# Altium schematic symbol library Amin-Library.SCHLIB: 505 symbols (part 3 of 4)
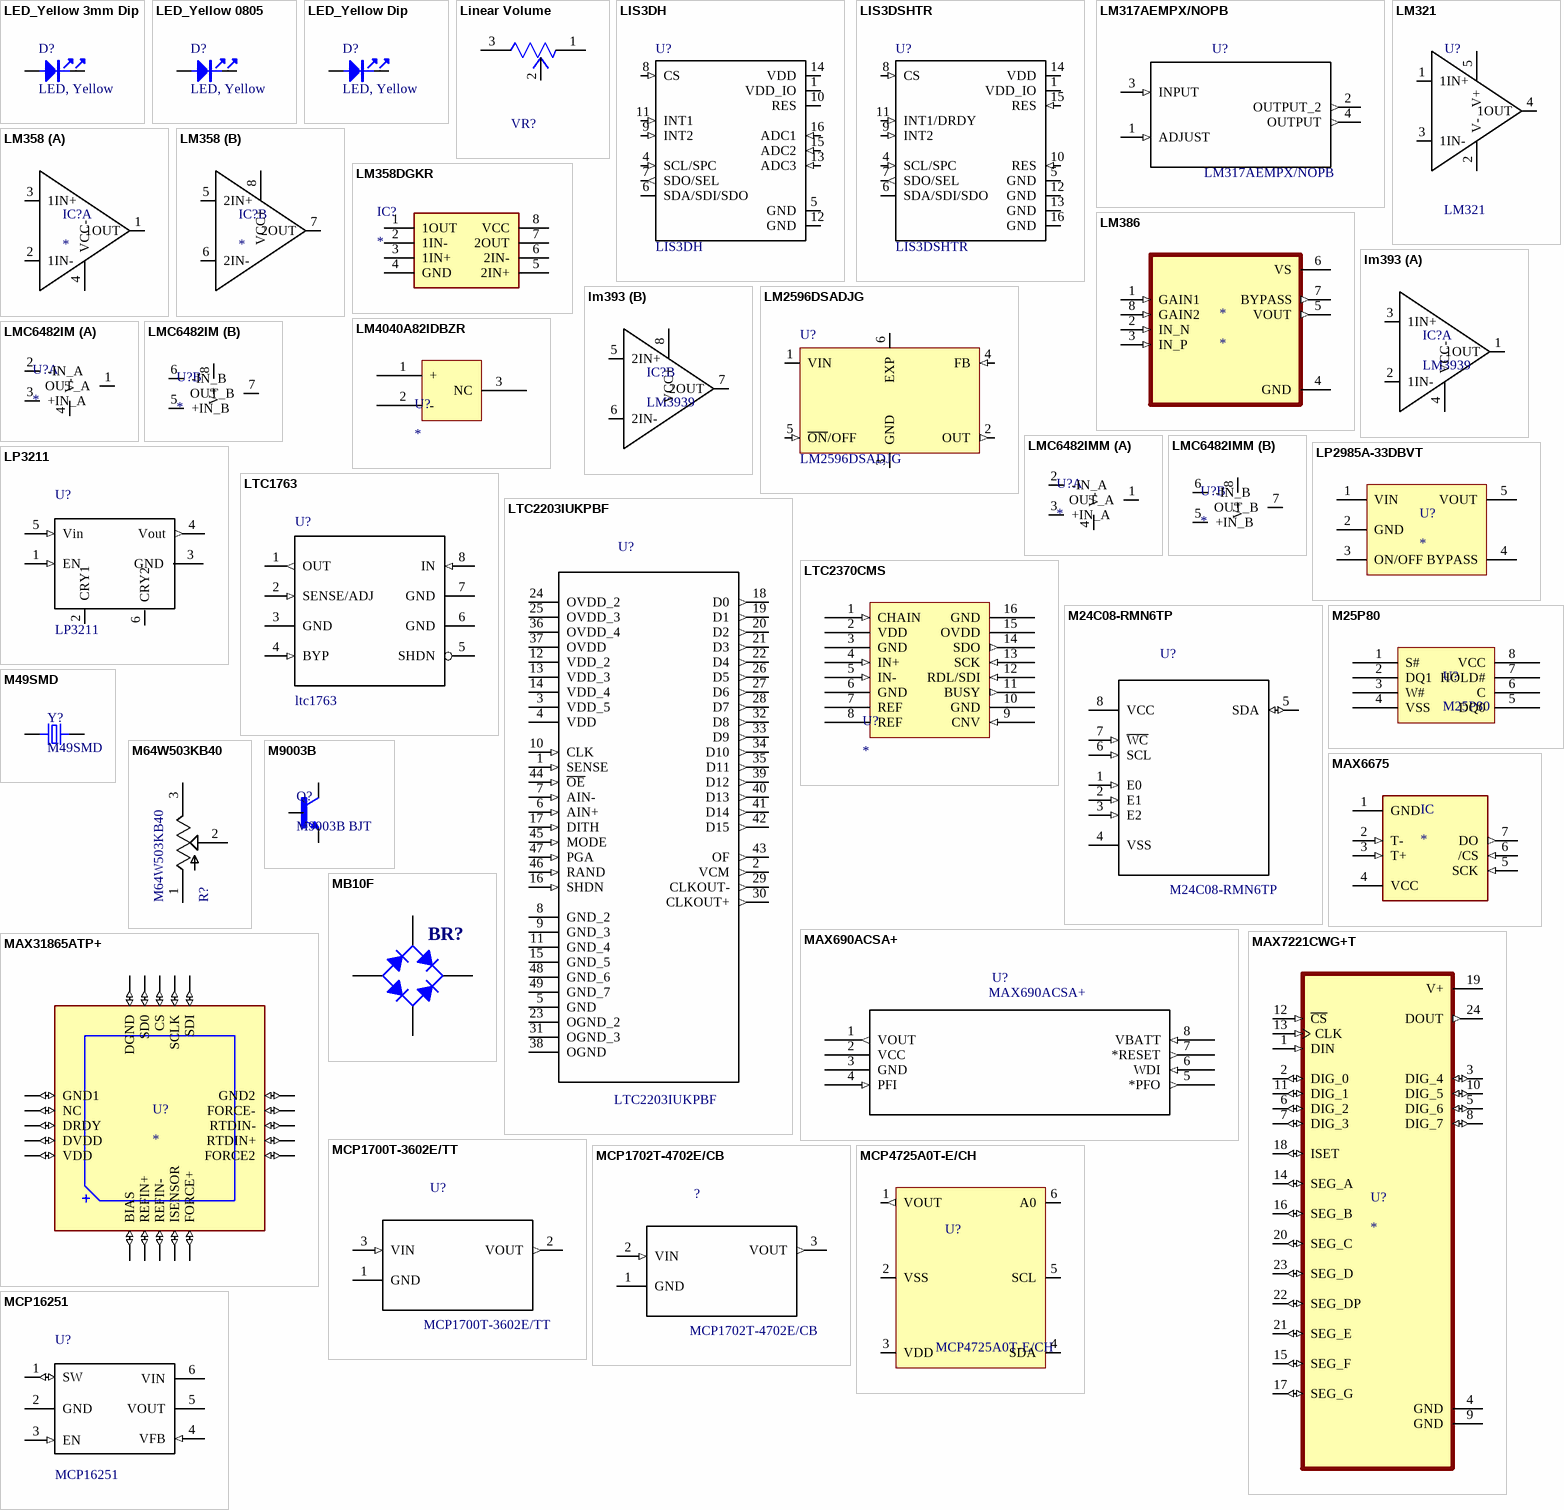
[diagram p20: symbols LED_Yellow 3mm Dip to MCP16251]

## LIS3DSHTR
designator U?
MEMS digital output motion sensor: ultra low-power high performance 3-axes nano accelerometer; MF: STMicroelectronics; SnapEDA_Link: https://www.snapeda.com/parts/LIS3DSHTR/STMicroelectronics/view-part/?ref=snap; Availability: Unavailable; Package: LGA-16 STMicroelectronics; MP: LIS3DSHTR; Price: None; Value: *
footprint *LGA16R50P5X3_300X300X100N
pins: 1 VDD_IO (power), 4 SCL/SPC (in), 5 GND (power), 6 SDA/SDI/SDO (io), 7 SDO/SEL (out), 8 CS (in), 9 INT2 (in), 10 RES (in), 11 INT1/DRDY (in), 12 GND (power), 13 GND (power), 14 VDD (power), 15 RES (in), 16 GND (power)

## LM317AEMPX/NOPB
designator U?
1% Accurate, 1.5A Adjustable Linear Regulator with Short Circuit Protection 4-SOT-223 -40 to 125; MF: Texas Instruments; Package: SOT-223-4 Texas Instruments; Digi-Key_Purchase_URL: https://www.digikey.com/product-detail/en/texas-instruments/LM317AEMPX-NOPB/LM317AEMPX-NOPBCT-ND/1010528?utm_source=snapeda&utm_medium=aggregator&utm_campaign=symbol; MP: LM317AEMPX/NOPB; SnapEDA_Link: https://www.snapeda.com/parts/LM317AEMPX/NOPB/Texas%20Instruments/view-part/?ref=snap; Digi-Key_Part_Number: LM317AEMPX/NOPBCT-ND; Value: *
footprint *SOT230P700X180-4N
pins: 1 ADJUST (in), 2 OUTPUT_2 (out), 3 INPUT (in), 4 OUTPUT (out)

## LM321
designator U?
Operational Amplifier 5-SOT-23; MP: OPA354AIDBVT; MF: Texas Instruments; Package: SOT-23-5 Texas Instruments; Digi-Key_Purchase_URL: https://www.digikey.de/product-detail/en/texas-instruments/OPA354AIDBVT/296-13033-1-ND/480149?utm_source=snapeda&utm_medium=aggregator&utm_campaign=symbol; SnapEDA_Link: https://www.snapeda.com/parts/OPA354AIDBVT/Texas%20Instruments/view-part/?ref=snap; Digi-Key_Part_Number: 296-13033-1-ND; Value: *
footprint LM321
pins: 1 1IN+, 2 V-, 3 1IN-, 4 1OUT, 5 V+

## LM358
designator IC?
op amp 8-Pin SOIC; Manufacturer_Name: Texas Instruments; Manufacturer_Part_Number: RC4558DR; Datasheet Link: http://www.ti.com/lit/gpn/rc4558; Height: 1.75mm; Arrow Part Number: RC4558DR; Arrow Price/Stock: https://www.arrow.com/en/products/rc4558dr/texas-instruments; Mouser Part Number: 595-RC4558DR; Mouser Price/Stock: https://www.mouser.co.uk/ProductDetail/Texas-Instruments/RC4558DR?qs=DXdcjUGny5OhrzskaZRdew%3D%3D
footprint LM358
part A pins: 1 1OUT, 2 1IN-, 3 1IN+, 4 VCC-
part B pins: 5 2IN+, 6 2IN-, 7 2OUT, 8 VCC+

## LM358DGKR
designator IC?
Integrated Circuit; Manufacturer_Name: Texas Instruments; Manufacturer_Part_Number: LM358DGKR; Datasheet Link: http://www.ti.com/lit/gpn/lm358; Height: 1.1mm; Arrow Part Number: LM358DGKR; Arrow Price/Stock: https://www.arrow.com/en/products/lm358dgkr/texas-instruments; Mouser Part Number: 595-LM358DGKR; Mouser Price/Stock: https://www.mouser.co.uk/ProductDetail/Texas-Instruments/LM358DGKR?qs=VBduBm9rCJQpfL21a%2FCtGg%3D%3D
footprint LM358DR
pins: 1 1OUT, 2 1IN-, 3 1IN+, 4 GND, 5 2IN+, 6 2IN-, 7 2OUT, 8 VCC

## LM386
designator *
footprint SOIC-8
pins: 1 GAIN1 (in), 2 IN_N (in), 3 IN_P (in), 4 GND (power), 5 VOUT (out), 6 VS (power), 7 BYPASS (out), 8 GAIN2 (in)

## lm393
designator IC?, comment LM3939
Integrated Circuit; Manufacturer_Name: Texas Instruments; Manufacturer_Part_Number: RC4558DR; Datasheet Link: http://www.ti.com/lit/gpn/rc4558; Height: 1.75mm; Arrow Part Number: RC4558DR; Arrow Price/Stock: https://www.arrow.com/en/products/rc4558dr/texas-instruments; Mouser Part Number: 595-RC4558DR; Mouser Price/Stock: https://www.mouser.co.uk/ProductDetail/Texas-Instruments/RC4558DR?qs=DXdcjUGny5OhrzskaZRdew%3D%3D
footprint lm393
part A pins: 1 1OUT, 2 1IN-, 3 1IN+, 4 VCC-
part B pins: 5 2IN+, 6 2IN-, 7 2OUT, 8 VCC+

## LM2596DSADJG
designator U?
LM2596 Series 3 A 150 kHz 40 V Stepdown Switching Regulator-D2PAK; MF: ON Semiconductor; Digi-Key_Part_Number: LM2596DSADJGOS-ND; Package: D2PAK ON Semiconductor; Digi-Key_Purchase_URL: https://www.digikey.com/product-detail/en/on-semiconductor/LM2596DSADJG/LM2596DSADJGOS-ND/2003290?utm_source=snapeda&utm_medium=aggregator&utm_campaign=symbol; MP: LM2596DSADJG; SnapEDA_Link: https://www.snapeda.com/parts/LM2596DSADJG/ON%20Semiconductor/view-part/215074/?ref=snap; Value: *
footprint LM2596DSADJG
pins: 1 VIN (power), 2 OUT (out), 3 GND (power), 4 FB (in), 5 ~{ON}/OFF (in), 6 EXP (power)

## LM4040A82IDBZR
designator U?
LM4040-N Precision Micropower Shunt Voltage Reference
footprint LM4040A82IDBZR
pins: 1 + (power), 2 - (power), 3 NC

## LMC6482IM
designator U?
Integrated Circuit; Manufacturer_Name: Analog Devices; Manufacturer_Part_Number: ADA4666-2ARMZ; Datasheet Link: https://docs-emea.rs-online.com/webdocs/1284/0900766b81284aba.pdf; Height: 1.1mm; Arrow Part Number: ADA4666-2ARMZ; Arrow Price/Stock: https://www.arrow.com/en/products/ada4666-2armz/analog-devices; Mouser Part Number: 584-ADA4666-2ARMZ; Mouser Price/Stock: https://www.mouser.com/Search/Refine.aspx?Keyword=584-ADA4666-2ARMZ
footprint LMC6482IM
part A pins: 1 OUT_A, 2 -IN_A, 3 +IN_A, 4 V- (power)
part B pins: 5 +IN_B, 6 -IN_B, 7 OUT_B, 8 V+

## LMC6482IMM
designator U?
Integrated Circuit; Manufacturer_Name: Analog Devices; Manufacturer_Part_Number: ADA4666-2ARMZ; Datasheet Link: https://docs-emea.rs-online.com/webdocs/1284/0900766b81284aba.pdf; Height: 1.1mm; Arrow Part Number: ADA4666-2ARMZ; Arrow Price/Stock: https://www.arrow.com/en/products/ada4666-2armz/analog-devices; Mouser Part Number: 584-ADA4666-2ARMZ; Mouser Price/Stock: https://www.mouser.com/Search/Refine.aspx?Keyword=584-ADA4666-2ARMZ
footprint LMC6482IMM
part A pins: 1 OUT_A, 2 -IN_A, 3 +IN_A, 4 V- (power)
part B pins: 5 +IN_B, 6 -IN_B, 7 OUT_B, 8 V+

## LP2985A-33DBVT
designator U?
150-mA 16-V low-dropout (LDO) voltage regulator with high-accuracy
footprint SOT-23-5
pins: 1 VIN, 2 GND, 3 ON/OFF, 4 BYPASS, 5 VOUT

## LP3211
designator U?
High Efficiency Step Up Converter; MP: MT3608; MF: Aerosemi Technology Co., Ltd; SnapEDA_Link: https://www.snapeda.com/parts/MT3608/Aerosemi%20Technology%20Co.%2C%20Ltd/view-part/3218014/?ref=snap; Availability: Unavailable; Price: None; Package: Package Analog Devices; Value: *
footprint LP3211S
pins: 1 EN (in), 2 CRY1, 3 GND (power), 4 Vout (out), 5 Vin (in), 6 CRY2

## LTC1763
designator U?, comment ltc1763
ltc1763 ADJ; MF: Microchip; MP: MIC5209YM; Package: SOIC-8 Microchip; Price: None; Availability: Unavailable; SnapEDA_Link: https://www.snapeda.com/parts/MIC5209YM/Microchip/view-part/?ref=snap; Value: *
footprint LTC1763
pins: 1 OUT (out), 2 SENSE/ADJ (in), 3 GND (power), 4 BYP (in), 5 SHDN (power), 6 GND (power), 7 GND (power), 8 IN (in)

## LTC2203IUKPBF
designator U?
Single Channel Single ADC Pipelined 25Msps 16-bit Parallel 48-Pin QFN EP Tube; MF: Analog Devices; MP: LTC2203IUK#PBF; SnapEDA_Link: https://www.snapeda.com/parts/LTC2203IUK%23PBF/Analog%20Devices/view-part/4349060/?ref=snap; Digi-Key_Purchase_URL: https://www.digikey.com/product-detail/en/linear-technology-analog-devices/LTC2203IUK-PBF/LTC2203IUK-PBF-ND/966479?utm_source=snapeda&utm_medium=aggregator&utm_campaign=symbol; Package: QFN -48 Analog Devices; Digi-Key_Part_Number: LTC2203IUK#PBF-ND; Value: *
footprint Ltc2203
pins: 1 SENSE (in), 2 VCM (out), 3 VDD_5 (power), 4 VDD (power), 5 GND, 6 AIN+ (in), 7 AIN- (in), 8 GND_2, 9 GND_3, 10 CLK (in), 11 GND_4, 12 VDD_2 (power), 13 VDD_3 (power), 14 VDD_4 (power), 15 GND_5, 16 SHDN (in), 17 DITH (in), 18 D0 (out), 19 D1 (out), 20 D2 (out), 21 D3 (out), 22 D4 (out), 23 OGND_2, 24 OVDD_2 (power), 25 OVDD_3 (power), 26 D5 (out), 27 D6 (out), 28 D7 (out), 29 CLKOUT- (out), 30 CLKOUT+ (out), 31 OGND_3, 32 D8 (out), 33 D9 (out), 34 D10 (out), 35 D11 (out), 36 OVDD_4 (power), 37 OVDD (power), 38 OGND, 39 D12 (out), 40 D13 (out), 41 D14 (out), 42 D15 (out), 43 OF (out), 44 ~{OE} (in), 45 MODE (in), 46 RAND (in), 47 PGA (in), 48 GND_6, 49 GND_7

## LTC2370CMS
designator U?
16-Bit, 2Msps, Pseudo-Differential Unipolar SAR ADC with 94dB SNR
footprint LTC2370CMS
pins: 1 CHAIN (in), 2 VDD (power), 3 GND (power), 4 IN+ (in), 5 IN- (in), 6 GND (power), 7 REF (power), 8 REF (power), 9 CNV (in), 10 GND (power), 11 BUSY (out), 12 RDL/SDI (in), 13 SCK (in), 14 SDO (out), 15 OVDD (power), 16 GND (power)

## M24C08-RMN6TP
designator U?
EEPROM Serial-I2C, 8Kb _1K x 8_, I-Temp, 1.8V-5.5V, SO8 _150 mil_; MF: STMicroelectronics; Package: SO-8 STMicroelectronics; Availability: Unavailable; Price: None; SnapEDA_Link: https://www.snapeda.com/parts/M24C08-RMN6TP/STMicroelectronics/view-part/?ref=snap; MP: M24C08-RMN6TP; Value: *
footprint *SOIC127P600X175-8N
pins: 1 E0 (in), 2 E1 (in), 3 E2 (in), 4 VSS, 5 SDA (io), 6 SCL (in), 7 ~{WC} (in), 8 VCC (power)

## M25P80
designator U?
8MB Flash memory; Company: Micron
footprint NSO8_N (8-Pin Small Outline Integrated Circuit 1.27 mm Pitch, IPC Medium Density)
pins: 1 S#, 2 DQ1, 3 W#, 4 VSS, 5 DQ0, 6 C, 7 HOLD#, 8 VCC

## M49SMD
designator Y?
M49SMD-24MHz-12pf-10ppm; MP: ECS-130-20-3X-TR; MF: ECS Inc.; Value: *; SnapEDA_Link: https://www.snapeda.com/parts/ECS-130-20-3X-TR/ECS%20Inc./view-part/2459108/?ref=snap; Check_prices: https://www.snapeda.com/parts/ECS-130-20-3X-TR/ECS%20Inc./view-part/2459108/?ref=eda; Purchase-URL: https://pricing.snapeda.com/search/part/ECS-130-20-3X-TR/?ref=eda; Availability: Warning; Price: None; Package: HC49/US ECS International
footprint M49SMD (M49SMD-24MHz-12pf-10ppm 4*7mm)
pins: 1, 2

## M64W503KB40
designator R?
Res Cermet Trimmer 50K Ohm 10% 1/2W 21_Elec_/23_Mech_Turn 2.2mm _9.7 X 5 X 11.1mm_ Pin Thru-Hole Bulk; MF: Vishay; Price: None; Package: TSOP-34836 Vishay; Availability: Unavailable; SnapEDA_Link: https://www.snapeda.com/parts/M64W503KB40/Vishay%20Spectrol/view-part/?ref=snap; MP: M64W503KB40; Value: *
footprint *SIP460W50P254L970H980Q3P
pins: 1 A, 2 B, 3 C

## M9003B
designator Q?, comment M9003B BJT
Bipolar (BJT) Transistor NPN TO-252, (D-Pak); MF: Diodes Inc.; MP: 2DB1184Q-13; SnapEDA_Link: https://www.snapeda.com/parts/2DB1184Q-13/Diodes+Inc./view-part/?ref=snap; Package: TO-252-3 Diodes Inc.; Value: *; Check_prices: https://www.snapeda.com/parts/2DB1184Q-13/Diodes+Inc./view-part/?ref=eda
footprint M9003 BJT (TO255-DPACK)
pins: 1 B, 2 C, 3 E

## MAX690ACSA+
designator U?
Supervisor Integrated Circuit; active-low; 4, 65 V; 1Ã·5.5VDC; SO8; MF: Maxim Integrated; Price: None; Package: SOIC-8 Maxim Integrated; Availability: Unavailable; SnapEDA_Link: https://www.snapeda.com/parts/MAX690ACSA%2B/Maxim%20Integrated/view-part/?ref=snap; MP: MAX690ACSA+; Value: *
footprint *21-0041B_8
pins: 1 VOUT (out), 2 VCC (power), 3 GND (power), 4 PFI (in), 5 *PFO (out), 6 WDI (in), 7 *RESET (out), 8 VBATT (in)

## MAX6675
designator IC
IC THERMOCOUP TO DGTL 8-SOIC; MP: MAX6675; MF: Maxim Integrated; Package: SOIC-8 Maxim Integrated; Availability: Unavailable; Value: *; SnapEDA_Link: https://www.snapeda.com/parts/MAX6675/Maxim%20Integrated/view-part/558569/?ref=snap; Price: None
footprint Max6675
pins: 1 GND (power), 2 T- (in), 3 T+ (in), 4 VCC (power), 5 SCK (in), 6 /CS (in), 7 DO (out)

## MAX7221CWG+T
designator U?
LED Driver 64 Segment 330000uA Supply Current 24-Pin SOIC W T/R; MP: MAX7221CWG+T; MF: Maxim Integrated Products; Purchase-URL: https://pricing.snapeda.com/search/part/MAX7221CWG+T/?ref=eda; SnapEDA_Link: https://www.snapeda.com/parts/MAX7221CWG+T/Maxim+Integrated/view-part/?ref=snap; Price: None; Package: None; Value: *; Check_prices: https://www.snapeda.com/parts/MAX7221CWG+T/Maxim+Integrated/view-part/?ref=eda; Availability: In Stock
footprint MAX7221CWG (SOIC127P1032X265-24N)
pins: 1 DIN (in), 2 DIG_0 (io), 3 DIG_4 (io), 4 GND (power), 5 DIG_6 (io), 6 DIG_2 (io), 7 DIG_3 (io), 8 DIG_7 (io), 9 GND (power), 10 DIG_5 (io), 11 DIG_1 (io), 12 ~{CS} (in), 13 CLK (in), 14 SEG_A (io), 15 SEG_F (io), 16 SEG_B (io), 17 SEG_G (io), 18 ISET (io), 19 V+ (power), 20 SEG_C (io), 21 SEG_E (io), 22 SEG_DP (io), 23 SEG_D (io), 24 DOUT (out)

## MAX31865ATP+
designator U?
Temp Monitoring System _Sensor_ External Sensor SPI Output 20-TQFN _5x5_; MF: Maxim Integrated; MP: MAX31865ATP+T; Availability: Unavailable; SnapEDA_Link: https://www.snapeda.com/parts/MAX31865ATP%2BT/Maxim%20Integrated/view-part/47355/?ref=snap; Price: None; Package: QFN-20 Maxim; Value: *
footprint MAX31865
pins: 1 BIAS (io), 2 REFIN+ (io), 3 REFIN- (io), 4 ISENSOR (io), 5 FORCE+ (io), 6 FORCE2 (io), 7 RTDIN+ (io), 8 RTDIN- (io), 9 FORCE- (io), 10 GND2 (io), 11 SDI (io), 12 SCLK (io), 13 CS (io), 14 SD0 (io), 15 DGND (io), 16 GND1 (io), 17 NC (io), 18 DRDY (io), 19 DVDD (io), 20 VDD (io)

## MB10F
designator BR?
Full Wave Diode Bridge; Published: 8-Jun-2000; Revision: July-2002: Re-released for DXP Platform.; Publisher: Altium Limited
footprint MB10F (BRIDGE RECTIFIER)
pins: 1 K, 2 C, 3 A, 4 C
2 alternate drawings of the same symbol

## MCP1700T-3602E/TT
designator U?
250mA CMOS LDO, Isupply 1uA and 2% VoutAccuracy; MF: Microchip; Package: SOT-23 Microchip; Digi-Key_Purchase_URL: https://www.digikey.com/product-detail/en/microchip-technology/MCP1700T-3602E-TT/MCP1700T-3602E-TTCT-ND/9450516?utm_source=snapeda&utm_medium=aggregator&utm_campaign=symbol; MP: MCP1700T-3602E/TT; Digi-Key_Part_Number: MCP1700T-3602E/TTCT-ND; SnapEDA_Link: https://www.snapeda.com/parts/MCP1700T-3602E/TT/Microchip/view-part/?ref=snap; Value: *
footprint MCP1700
pins: 1 GND, 2 VOUT (out), 3 VIN (in)

## MCP1702T-4702E/CB
designator ?
LDO Regulator Pos 4.7V 0.25A 3-Pin SOT-23A T/R; MF: Microchip; Package: SOT-23 Microchip; MP: MCP1702T-4702E/CB; SnapEDA_Link: https://www.snapeda.com/parts/MCP1702T-4702E/CB/Microchip/view-part/?ref=snap; Availability: Unavailable; Price: None; Value: *
footprint MCP1700T-3602E/MB
pins: 1 GND, 2 VIN (in), 3 VOUT (out)

## MCP4725A0T-E/CH
designator U?
MCP4725 Series 1 Ch I2C EEPROM Memory 5.5 V 12-Bit D/A Converter SMT - SOT-23-6; MF: Microchip; Price: None; MP: MCP4725A0T-E/CH; SnapEDA_Link: https://www.snapeda.com/parts/MCP4725A0T-E/CH/Microchip/view-part/?ref=snap; Package: SOT-23-6 Microchip; Availability: Unavailable; Value: *
footprint MCP4725
pins: 1 VOUT (out), 2 VSS (power), 3 VDD (power), 4 SDA (power), 5 SCL, 6 A0

## MCP16251
designator U?
High Efficiency 1.2MHz / 2A Step Up Converter; MP: MT3608; MF: Aerosemi Technology Co., Ltd; SnapEDA_Link: https://www.snapeda.com/parts/MT3608/Aerosemi%20Technology%20Co.%2C%20Ltd/view-part/3218014/?ref=snap; Availability: Unavailable; Price: None; Package: Package Analog Devices; Value: *
footprint MCP16251
pins: 1 SW (io), 2 GND (power), 3 EN (in), 4 VFB (in), 5 VOUT (power), 6 VIN (power)

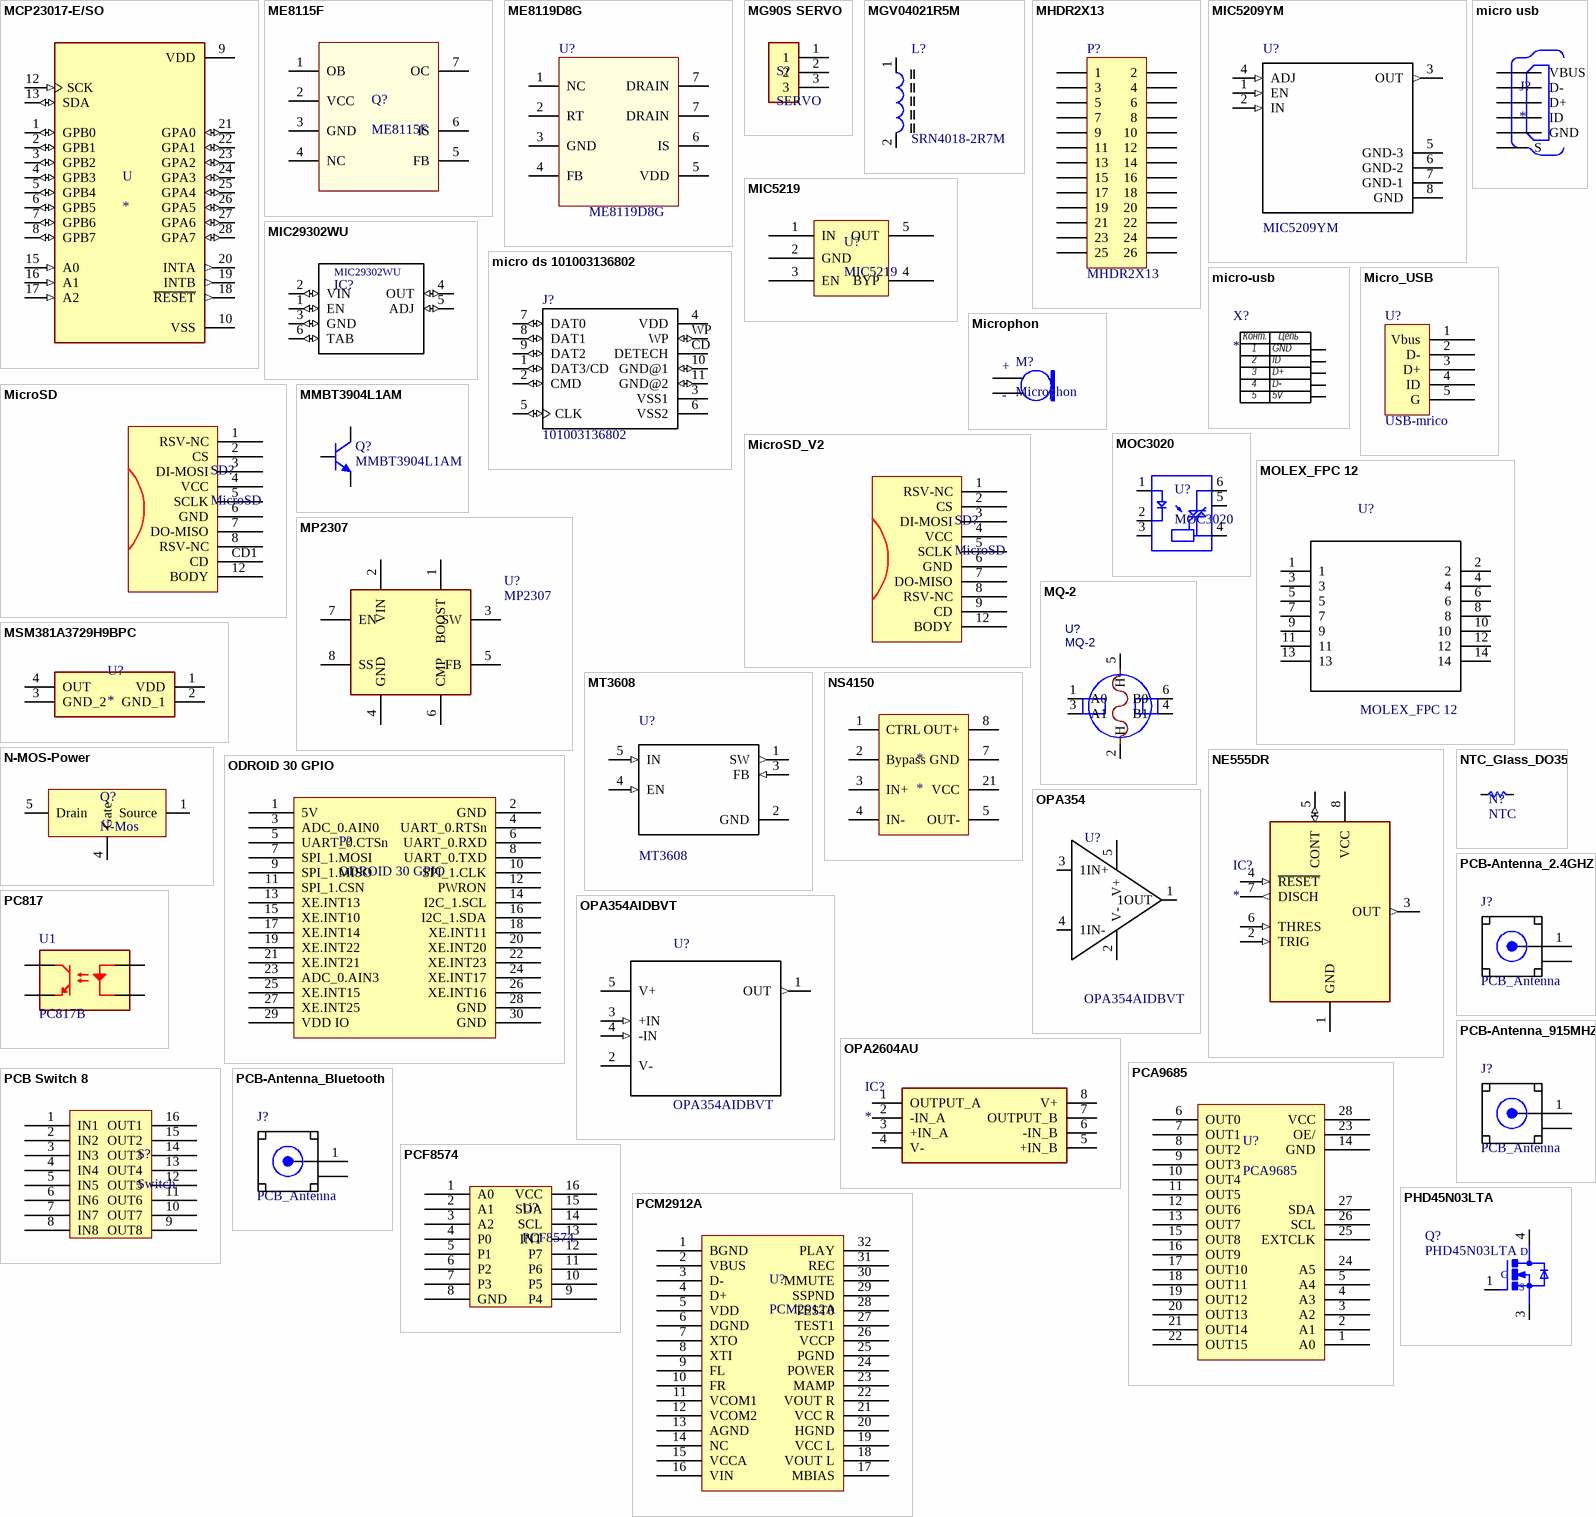
[diagram p12: symbols MCP23017-E/SO to PHD45N03LTA]

## MCP23017-E/SO
designator U
I/O Expander 16 IÂ²C 1.7MHz 28-SOIC; MF: Microchip; MP: MCP23017-E/SO; SnapEDA_Link: https://www.snapeda.com/parts/MCP23017-E/SO/Microchip/view-part/48467/?ref=snap; Price: None; Value: *; Availability: Unavailable; Package: SOIC-28 Microchip
footprint MCP23017
pins: 1 GPB0 (io), 2 GPB1 (io), 3 GPB2 (io), 4 GPB3 (io), 5 GPB4 (io), 6 GPB5 (io), 7 GPB6 (io), 8 GPB7 (io), 9 VDD (power), 10 VSS (power), 12 SCK (in), 13 SDA (io), 15 A0 (in), 16 A1 (in), 17 A2 (in), 18 ~{RESET} (out), 19 INTB (out), 20 INTA (out), 21 GPA0 (io), 22 GPA1 (io), 23 GPA2 (io), 24 GPA3 (io), 25 GPA4 (io), 26 GPA5 (io), 27 GPA6 (io), 28 GPA7 (io)

## ME8115F
designator Q?
PWM Controller of High-performance Current Mode; MF: Toshiba Semiconductor; MP: TPHR8504PL,L1Q; Package: SOP-8 Toshiba; Price: None; Value: *; SnapEDA_Link: https://www.snapeda.com/parts/TPHR8504PL,L1Q/Toshiba%20Semiconductor%20and%20Storage/view-part/604439/?ref=snap; Availability: Unavailable
footprint ME8115F
pins: 1 OB, 2 VCC (power), 3 GND (power), 4 NC, 5 FB, 6 IS, 7 OC

## ME8119D8G
designator U?
PWM Controller of High-performance ME8119D8G DIP8; MF: Toshiba Semiconductor; MP: TPHR8504PL,L1Q; Package: SOP-8 Toshiba; Price: None; Value: *; SnapEDA_Link: https://www.snapeda.com/parts/TPHR8504PL,L1Q/Toshiba%20Semiconductor%20and%20Storage/view-part/604439/?ref=snap; Availability: Unavailable
footprint ME8119D8G (DIP8)
pins: 1 NC, 2 RT (power), 3 GND (power), 4 FB, 5 VDD, 6 IS, 7 DRAIN, 7 DRAIN

## MG90S SERVO
designator S?, comment SERVO
SERVO MOTOR; MP: B4B-XH-A_LF__SN_; MF: JST Sales; Price: None; Package: None; Value: *; Availability: Unavailable; SnapEDA_Link: https://www.snapeda.com/parts/B4B-XH-A%28LF%29%28SN%29/JST%20Sales%20America%20Inc./view-part/447494/?ref=snap
footprint MG90S SERVO MOTOR
pins: 1, 2, 3

## MGV04021R5M
designator L?, comment SRN4018-2R7M
Inductor; Semi-Shielded; Ind 1.5 uH; Tol 20%; Cur-Rtg 4 A; SMT; 1616; MF: Bourns; Availability: Unavailable; Price: None; MP: SRN4018-2R7M; Package: Nonstandard Bourns; SnapEDA_Link: https://www.snapeda.com/parts/SRN4018-2R7M/Bourns/view-part/?ref=snap; Value: *
footprint *INDP4040X180N
pins: 1, 2

## MHDR2X13
designator P?
Header, 13-Pin, Dual row; LatestRevisionDate: 17-Jul-2002; LatestRevisionNote: Re-released for DXP Platform.; Publisher: Altium Limited
footprint HDR2X13 (Connector; Header; 13x2 Position)
signal-integrity model Connector
footprint Model Name (Model Description)
footprint HDR2X13 (Connector; Header; 13x2 Position)
pins: 1, 2, 3, 4, 5, 6, 7, 8, 9, 10, 11, 12, 13, 14, 15, 16, 17, 18, 19, 20, 21, 22, 23, 24, 25, 26

## MIC5209YM
designator U?
MIC5209 Series 500 mA ADJ Output Voltage SMT Low-Noise LDO Regulator - SOIC-8; MF: Microchip; Package: SOIC-8 Microchip; Price: None; Availability: Unavailable; MP: MIC5209YM; SnapEDA_Link: https://www.snapeda.com/parts/MIC5209YM/Microchip/view-part/?ref=snap; Value: *
footprint mic5209
pins: 1 EN (in), 2 IN (in), 3 OUT (out), 4 ADJ (in), 5 GND-3 (power), 6 GND-2 (power), 7 GND-1 (power), 8 GND (power)

## MIC5219
designator U?
500 mA Peak Output LDO Regulator
footprint SOT23_LP5907 (SOT23, 5-Leads, Body 2.88x2.80mm, Pitch 0.95mm, IPC Medium Density)
pins: 1 IN, 2 GND, 3 EN, 4 BYP, 5 OUT

## MIC29302WU
designator IC?  (value not drawn)
Linear Voltage Regulator IC 1 Output 3A TO-263-5; MF: Microchip Technology; MP: MIC29302WU; Price: None; Package: TO-263-6 Microchip Technology; SnapEDA_Link: https://www.snapeda.com/parts/MIC29302WU/Microchip/view-part/4422516/?ref=snap; Availability: Unavailable; Value: *
footprint mic29302
pins: 1 EN (io), 2 VIN (io), 3 GND (io), 4 OUT (io), 5 ADJ (io), 6 TAB (io)

## micro ds 101003136802
designator J?, comment 101003136802
Conn; IC Socket; SD Memory Card; Push/Push; SD Ser.; MF: Amphenol; MP: 101003136802; SnapEDA_Link: https://www.snapeda.com/parts/101003136802/Amphenol/view-part/?ref=snap; Package: None; Price: None; Availability: Unavailable; Value: *
footprint *AMPHENOL_101003136802_101003136802(Primary)
pins: 1 DAT3/CD (io), 2 CMD (io), 3 VSS1 (power), 4 VDD (power), 5 CLK (io), 6 VSS2, 7 DAT0 (io), 8 DAT1 (io), 9 DAT2 (io), 10 GND@1 (io), 11 GND@2 (io), CD DETECH, WP (io)

## micro usb
designator J?
USB - micro AB USB 2.0 Receptacle Connector 5 Position Surface Mount, Right Angle; MF: Amphenol ICC; MP: 10104111-0001LF; Value: *; Price: None; Package: None; SnapEDA_Link: https://www.snapeda.com/parts/10104111-0001LF/Amphenol%20FCI/view-part/2753161/?ref=snap; Availability: Unavailable
footprint micro usb
pins: 1 VBUS (power), 2 D-, 3 D+, 4 ID, 5 GND (power), 6 S (power), 7 S (power), 8 S (power), 9 S (power)

## micro-usb
designator X?
footprint micro-usb
pins: 1, 2, 3, 4, 5
text: Конт.; Цепь; GND; ID; D+; D-; 5V

## Micro_USB
designator U?, comment USB-mrico
footprint micro-usb
pins: 1 Vbus, 2 D-, 3 D+, 4 ID, 5 G

## Microphon
designator M?
MF: CUI Devices; MP: CMEJ-0415-42-P; Digi-Key_Part_Number: 102-6542-ND; Package: CUI Inc.; CUI_purchase_URL: https://www.cuidevices.com/product/audio/microphones/electret-condenser-microphones/cmej-0415-42-p?utm_source=snapeda.com&utm_medium=referral&utm_campaign=snapedaBOM; Digi-Key_Purchase_URL: https://www.digikey.com/product-detail/en/cui-devices/CMEJ-0415-42-P/102-6542-ND/10253451?utm_source=snapeda&utm_medium=aggregator&utm_campaign=symbol; SnapEDA_Link: https://www.snapeda.com/parts/CMEJ-0415-42-P/CUI%20Devices/view-part/3625885/?ref=snap; Value: *
footprint MIC_CMEJ-0415-42-P
pins: N GND, P OUTPUT
text: +; -

## MicroSD
designator SD?
footprint SD_CARD
pins: 1 RSV-NC, 2 CS, 3 DI-MOSI, 4 VCC, 5 SCLK, 6 GND, 7 DO-MISO, 8 RSV-NC, 12 BODY, CD1 CD

## MicroSD_V2
designator SD?, comment MicroSD
footprint SD_CARDSUNTECH_ST-TF-003A_ST-TF-003A
pins: 1 RSV-NC, 2 CS, 3 DI-MOSI, 4 VCC, 5 SCLK, 6 GND, 7 DO-MISO, 8 RSV-NC, 9 CD, 12 BODY

## MMBT3904L1AM
designator Q?
NPN General Purpose Amplifier; Published: 8-Jun-2000; LatestRevisionDate: 15-Jan-2003; LatestRevisionNote: PCB Footprint 'BCY-W3/D4.7' replaced; DatasheetVersion: 1997; PackageVersion: Sep-1998; PackageReference: TO-92A; Publisher: Altium Limited; PackageDescription: TO, Flat Index; 3 In-Line, Axial Leads; Body Dia. 4.5mm; Leads 0.51 x 0.48 mm (max); ComponentLink1Description: Manufacturer Link; ComponentLink1URL: http://www.fairchildsemi.com/; ComponentLink2Description: Datasheet; ComponentLink2URL: http://www.fairchildsemi.com/ds/2N%2F2N3904.pdf
footprint 2N3904 (BJT TRANSISTOR SOT23, 3 pin)
pins: 1 B, 2 E, 3 C

## MOC3020
designator U?
Optoisolator Triac Output 4170Vrms 1 Channel 6-SMD; MP: VOT8026AB-T; Package: None; Price: None; Value: *; Availability: Unavailable
footprint MOC3020
pins: 1 A, 2 C, 3, 4 MT1, 5 NC, 6 MT2

## MOLEX_FPC 12
designator U?
Conn FPC Connector SKT 12 POS 1mm Solder RA SMD Easy-Onâ„¢ Embossed T/R; MF: Molex; MP: 52271-1269; Price: None; Package: None; SnapEDA_Link: https://www.snapeda.com/parts/52271-1269/Molex/view-part/?ref=snap; Availability: Unavailable; Value: *
footprint MOLEX_FPC 12
footprint FPC-12-0.5mm
pins: 1, 2, 3, 4, 5, 6, 7, 8, 9, 10, 11, 12, 13, 14

## MP2307
designator U?
Buck Switching Regulator IC Positive Adjustable 0.925V 1 Output 3A 8-SOIC (0.154, 3.90mm Width) Exposed Pad; MF: Monolithic Power; Price: None; Package: SOIC-8 Monolithic Power; MP: MP2307; Availability: Unavailable; SnapEDA_Link: https://www.snapeda.com/parts/MP2307/Monolithic%20Power%20Systems%20Inc./view-part/2874586/?ref=snap; Value: *
footprint MP2307 (SOIC8)
pins: 1 BOOST, 2 VIN, 3 SW, 4 GND, 5 FB, 6 CMP, 7 EN, 8 SS

## MQ-2
designator U?
Manufacturer: Winsen(炜盛); Supplier: LCSC; Manufacturer Part: MQ-2; Supplier Part: C99296; JLCPCB Part Class: Extended Part; spicePre: U; spiceSymbolName: MQ-2
footprint SENSOR-TH_MQ-2
pins: 1 A0, 2 H, 3 A1, 4 B1, 5 H, 6 B0

## MSM381A3729H9BPC
designator U?
Analog output MEMS microphone
footprint MSM381A3729H9BPC
pins: 1 VDD, 2 GND_1, 3 GND_2, 4 OUT

## MT3608
designator U?
High Efficiency / Step Up Converter; MF: Aerosemi Technology Co., Ltd; SnapEDA_Link: https://www.snapeda.com/parts/MT3608/Aerosemi%20Technology%20Co.%2C%20Ltd/view-part/3218014/?ref=snap; Availability: Unavailable; MP: MT3608; Price: None; Package: Package Analog Devices; Value: *
footprint MT3608
pins: 1 SW (out), 2 GND (power), 3 FB (in), 4 EN (in), 5 IN (in)

## N-MOS-Power
designator Q?, comment N-Mos
footprint DFN5*6
pins: 1 Source, 4 Gate, 5 Drain

## NE555DR
designator IC?
Integrated Circuit; Manufacturer_Name: Texas Instruments; Manufacturer_Part_Number: NE555DR; Datasheet Link: http://www.ti.com/lit/ds/symlink/ne555.pdf; Height: 1.75mm; Mouser Part Number: 595-NE555DR; Mouser Price/Stock: https://www.mouser.com/Search/Refine.aspx?Keyword=595-NE555DR; RS Part Number: 1218414; RS Price/Stock: http://uk.rs-online.com/web/p/products/1218414
footprint NE555DR
pins: 1 GND (power), 2 TRIG (in), 3 OUT (out), 4 ~{RESET} (in), 5 CONT (io), 6 THRES (in), 7 DISCH (out), 8 VCC (power)

## NS4150
designator *
pins: 1 CTRL, 2 Bypass, 3 IN+, 4 IN-, 5 OUT-, 7 GND, 8 OUT+, 21 VCC

## NTC_Glass_DO35
designator N?, comment NTC
NTC_Glass_DO35; Published: 8-Jun-2000; LatestRevisionDate: 29-May-2009; LatestRevisionNote: IPC-7351 Footprint Added.; PackageReference: J1-0603; Publisher: Altium Limited; PackageDescription: Chip Resistor
footprint NTC_Glass_DO35
pins: 1, 2

## ODROID 30 GPIO
designator P?
pins: 1 5V, 2 GND, 3 ADC_0.AIN0, 4 UART_0.RTSn, 5 UART_0.CTSn, 6 UART_0.RXD, 7 SPI_1.MOSI, 8 UART_0.TXD, 9 SPI_1.MISO, 10 SPI_1.CLK, 11 SPI_1.CSN, 12 PWRON, 13 XE.INT13, 14 I2C_1.SCL, 15 XE.INT10, 16 I2C_1.SDA, 17 XE.INT14, 18 XE.INT11, 19 XE.INT22, 20 XE.INT20, 21 XE.INT21, 22 XE.INT23, 23 ADC_0.AIN3, 24 XE.INT17, 25 XE.INT15, 26 XE.INT16, 27 XE.INT25, 28 GND, 29 VDD IO, 30 GND

## OPA354
designator U?, comment OPA354AIDBVT
250MHz, ail-to- ail I/O, CMOS Single Operational Amplifier 5-SOT-23 -40 to 125; MF: Texas Instruments; Package: SOT-23-5 Texas Instruments; Digi-Key_Purchase_URL: https://www.digikey.de/product-detail/en/texas-instruments/OPA354AIDBVT/296-13033-1-ND/480149?utm_source=snapeda&utm_medium=aggregator&utm_campaign=symbol; MP: OPA354AIDBVT; SnapEDA_Link: https://www.snapeda.com/parts/OPA354AIDBVT/Texas%20Instruments/view-part/?ref=snap; Digi-Key_Part_Number: 296-13033-1-ND; Value: *
footprint OPA354
pins: 1 1OUT, 2 V-, 3 1IN+, 4 1IN-, 5 V+

## OPA354AIDBVT
designator U?
250MHz, ail-to- ail I/O, CMOS Single Operational Amplifier 5-SOT-23 -40 to 125; MF: Texas Instruments; Package: SOT-23-5 Texas Instruments; Digi-Key_Purchase_URL: https://www.digikey.de/product-detail/en/texas-instruments/OPA354AIDBVT/296-13033-1-ND/480149?utm_source=snapeda&utm_medium=aggregator&utm_campaign=symbol; MP: OPA354AIDBVT; SnapEDA_Link: https://www.snapeda.com/parts/OPA354AIDBVT/Texas%20Instruments/view-part/?ref=snap; Digi-Key_Part_Number: 296-13033-1-ND; Value: *
footprint OPA354
pins: 1 OUT (out), 2 V- (power), 3 +IN (in), 4 -IN (in), 5 V+ (power)

## OPA2604AU
designator IC?
Integrated Circuit; Manufacturer_Name: Texas Instruments; Manufacturer_Part_Number: OPA2604AU; Datasheet Link: https://media.digikey.com/pdf/Data%20Sheets/Texas%20Instruments%20PDFs/OPA2604.pdf; Height: 1.75mm; Arrow Part Number: OPA2604AU; Arrow Price/Stock: https://www.arrow.com/en/products/opa2604au/texas-instruments; Mouser Part Number: 595-OPA2604AU; Mouser Price/Stock: https://www.mouser.co.uk/ProductDetail/Texas-Instruments/OPA2604AU?qs=7nS3%252BbEUL6uj1K%2FE4kYM7w%3D%3D
footprint OPA2604AU
pins: 1 OUTPUT_A, 2 -IN_A, 3 +IN_A, 4 V-, 5 +IN_B, 6 -IN_B, 7 OUTPUT_B, 8 V+

## PC817
designator U1, comment PC817B
Optocoupler DC-IN 1-CH Transistor DC-OUT 4-Pin PDIP Sleeve; Manufacturer: Sharp; Manufacturer Part Number: PC817X1J000F; Collector Emitter Saturation Voltage: 200mV; Forward Current: 50mA; Max Power Dissipation: 200mW; Number of Channels: 1; Forward Voltage: 1.4V; Reverse Breakdown Voltage: 6V; Rise Time: 18000ns; Collector Emitter Voltage (VCEO): 80V; Isolation Voltage: 5kV; Input Type: DC; Input Current: 20mA; Current Transfer Ratio: 600%; Supplier 1: Farnell; RoHS: Yes; Category: Optocouplers; Pricing 1: 1=0.8, 25=0.43, 100=0.29, 250=0.246, 500=0.205, 1000=0.185, 3000=0.166, 10000=0.149 (GBP); Mount: Through Hole; Case/Package: DIP; Number of Pins: 4; Min Operating Temperature: -30°C; Max Operating Temperature: 100°C; Packaging: Sleeve; Package Quantity: 2000; Max Collector Current: 50mA; Fall Time: 18000ns; Number of Elements: 1; Power Dissipation: 200mW; Max Input Current: 50mA; Output Current per Channel: 50mA; Collector-emitter Voltage-Max: 200mV; Output Voltage: 80V; Collector Emitter Breakdown Voltage: 80V; Radiation Hardening: No; RoHS Compliant: Yes; Reach SVHC Compliant: Unknown; ComponentLink1URL: https://datasheet.ciiva.com/15118/getdatasheetpartid-51013-15118433.pdf?src-supplier=Verical; ComponentLink1Description: https://datasheet.ciiva.com/15118/getdatasheetpartid-51013-15118433.pdf?src-supplier=Verical; ComponentLink2URL: https://datasheet.ciiva.com/8098/pc817x-ej-8098850.pdf?src-supplier=Avnet; ComponentLink2Description: https://datasheet.ciiva.com/8098/pc817x-ej-8098850.pdf?src-supplier=Avnet; ComponentLink3URL: https://datasheet.ciiva.com/6946/73758-6946101.pdf?src-supplier=Newark; ComponentLink3Description: https://datasheet.ciiva.com/6946/73758-6946101.pdf?src-supplier=Newark; ComponentLink4URL: https://datasheet.ciiva.com/8068/1695399-8068005.pdf?src-supplier=Element14; ComponentLink4Description: https://datasheet.ciiva.com/8068/1695399-8068005.pdf?src-supplier=Element14; ComponentLink5URL: https://datasheet.ciiva.com/2092/pc817x-ej-2092617.pdf?src-supplier=Digi-Key; ComponentLink5Description: https://datasheet.ciiva.com/2092/pc817x-ej-2092617.pdf?src-supplier=Digi-Key; Supplier Part Number 1: 9707697
footprint DIP4 7.62MM (Designed by Siavash bolhasani)
pins: 1, 2, 3, 4

## PCA9685
designator U?
16-channel, 12-bit PWM Fm+ I2C-bus LED controller
footprint TSSOP28 (Shrink Small Outline; 28 Leads; Body Width 4.4 mm; Pitch 0.65 mm)
pins: 1 A0, 2 A1, 3 A2, 4 A3, 5 A4, 6 OUT0, 7 OUT1, 8 OUT2, 9 OUT3, 10 OUT4, 11 OUT5, 12 OUT6, 13 OUT7, 14 GND, 15 OUT8, 16 OUT9, 17 OUT10, 18 OUT11, 19 OUT12, 20 OUT13, 21 OUT14, 22 OUT15, 23 OE/, 24 A5, 25 EXTCLK, 26 SCL, 27 SDA, 28 VCC

## PCB Switch 8
designator S?, comment Switch
footprint DIP8_Switch (DIP; 16 Leads; Row Spacing 7.62 mm; Pitch 2.54 mm)
pins: 1 IN1, 2 IN2, 3 IN3, 4 IN4, 5 IN5, 6 IN6, 7 IN7, 8 IN8, 9 OUT8, 10 OUT7, 11 OUT6, 12 OUT5, 13 OUT4, 14 OUT3, 15 OUT2, 16 OUT1

## PCB-Antenna_2.4GHZ
designator J?, comment PCB_Antenna
PCB 2.4GHZ Antenna; MP: SMA-J-P-H-RA-TH1; MF: Samtec; Package: None; Price: None; Availability: Unavailable; SnapEDA_Link: https://www.snapeda.com/parts/SMA-J-P-H-RA-TH1/Samtec%20Inc./view-part/134498/?ref=snap; Value: *
footprint PCB_Antenna - 2.4GHZ
pins: 1 SIGNAL, 2 GND (power), 3 GND (power), 4 GND (power), 5 GND (power)

## PCB-Antenna_915MHZ
designator J?, comment PCB_Antenna
PCB 915MHZ Antenna; MP: SMA-J-P-H-RA-TH1; MF: Samtec; Package: None; Price: None; Availability: Unavailable; SnapEDA_Link: https://www.snapeda.com/parts/SMA-J-P-H-RA-TH1/Samtec%20Inc./view-part/134498/?ref=snap; Value: *
footprint PCB_Antenna
pins: 1 SIGNAL, 2 GND (power), 3 GND (power), 4 GND (power), 5 GND (power)

## PCB-Antenna_Bluetooth
designator J?, comment PCB_Antenna
PCB bluetooth Antenna; MP: SMA-J-P-H-RA-TH1; MF: Samtec; Package: None; Price: None; Availability: Unavailable; SnapEDA_Link: https://www.snapeda.com/parts/SMA-J-P-H-RA-TH1/Samtec%20Inc./view-part/134498/?ref=snap; Value: *
footprint PCB_Antenna - Bluetooth
pins: 1 SIGNAL, 2 GND (power), 3 GND (power), 4 GND (power), 5 GND (power)

## PCF8574
designator U?
Remote 8-Bit I/O Expander for I  2C Bus
footprint WSO16_M (16-Pin Small Outline Integrated Circuit 1.27 mm Pitch, IPC Low Density)
pins: 1 A0, 2 A1, 3 A2, 4 P0, 5 P1, 6 P2, 7 P3, 8 GND, 9 P4, 10 P5, 11 P6, 12 P7, 13 INT, 14 SCL, 15 SDA, 16 VCC

## PCM2912A
designator U?
Audio Codec With USB Interface
footprint 32A_N (32-Pin Thin Quad Flat Pack 0.8 mm Pitch, IPC Medium Density)
pins: 1 BGND, 2 VBUS, 3 D-, 4 D+, 5 VDD, 6 DGND, 7 XTO, 8 XTI, 9 FL, 10 FR, 11 VCOM1, 12 VCOM2, 13 AGND, 14 NC, 15 VCCA, 16 VIN, 17 MBIAS, 18 VOUT L, 19 VCC L, 20 HGND, 21 VCC R, 22 VOUT R, 23 MAMP, 24 POWER, 25 PGND, 26 VCCP, 27 TEST1, 28 TEST0, 29 SSPND, 30 MMUTE, 31 REC, 32 PLAY

## PHD45N03LTA
designator Q?
N-chanel Mosfet Transistors; MF: NXP USA; Package: TO-252-3 NXP USA; Price: None; SnapEDA_Link: https://www.snapeda.com/parts/PHD45N03LTA/NXP%20USA%20Inc./view-part/554376/?ref=snap; Availability: Unavailable; Value: *; MP: PHD45N03LTA
footprint PHD45N03LTA (TO-252-3)
pins: 1 G, 3 S, 4 D

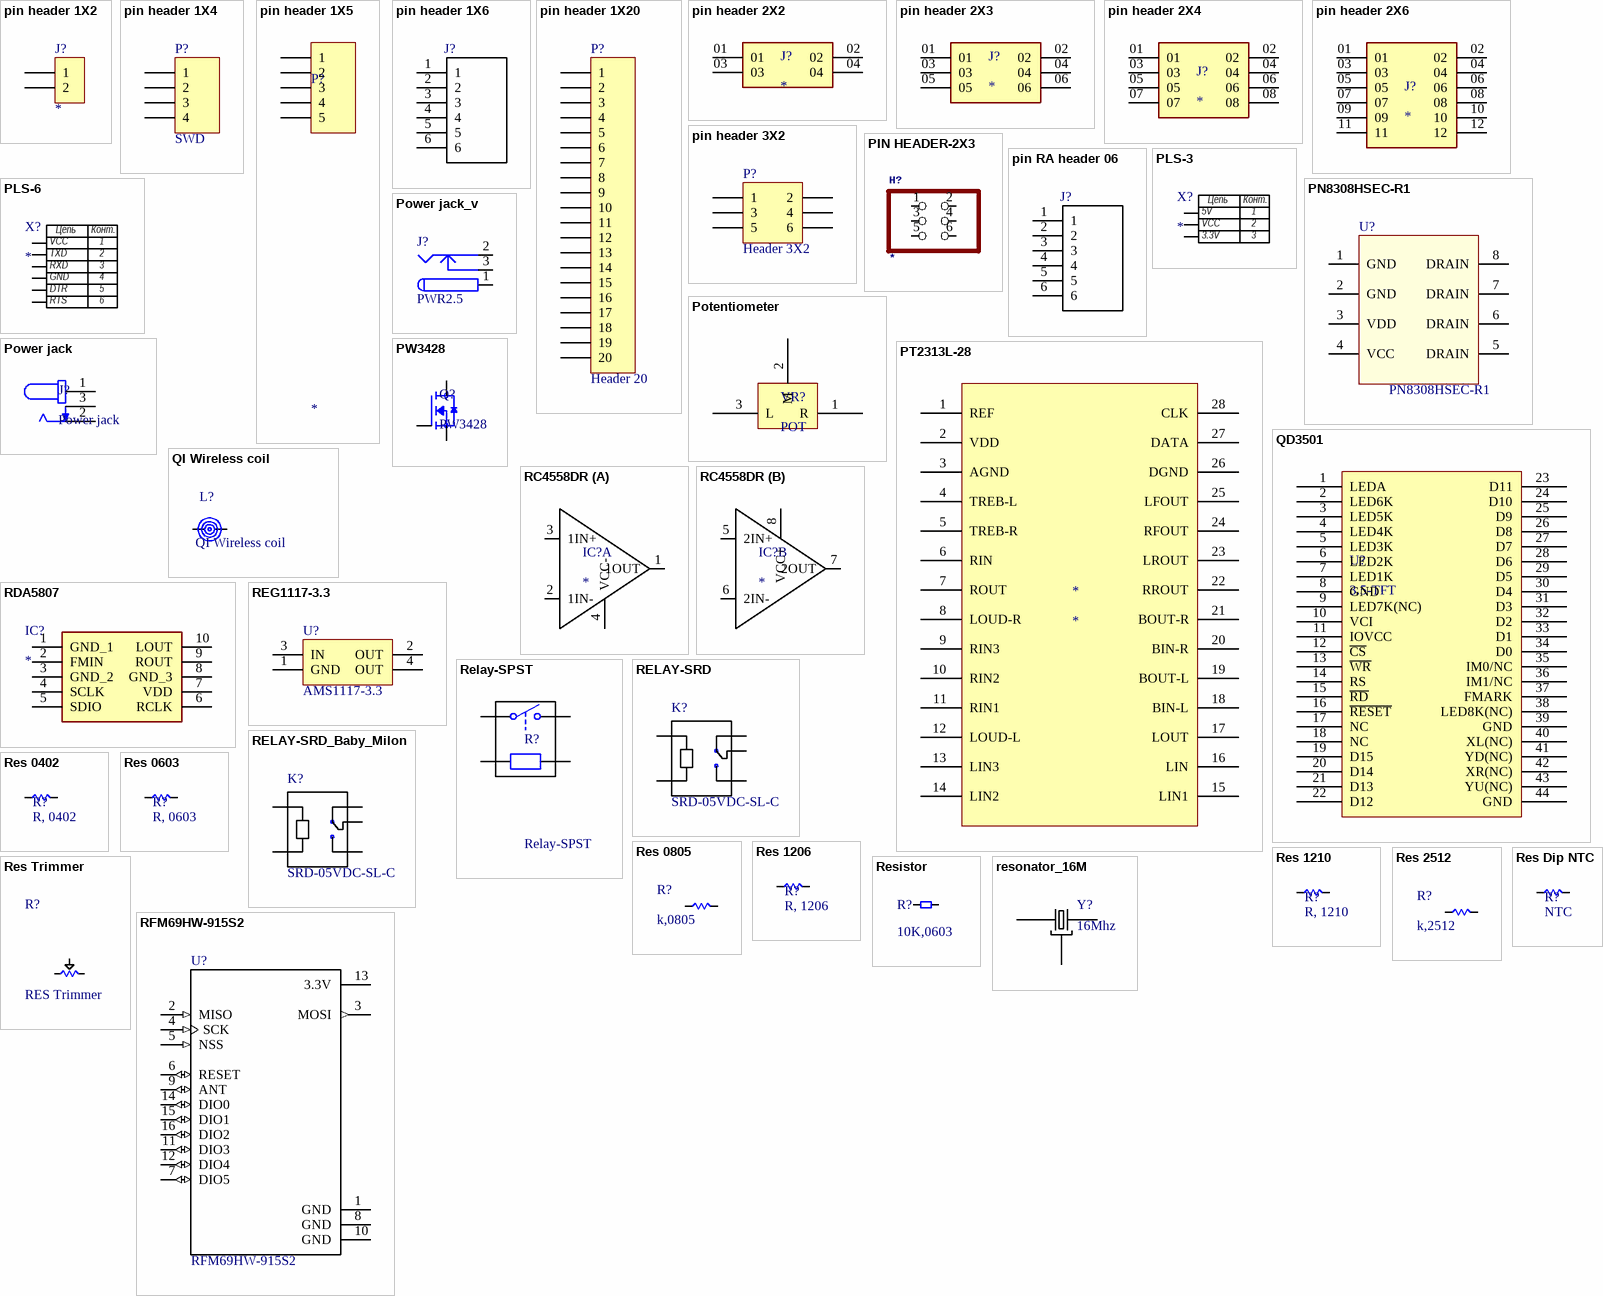
[diagram p13: symbols pin header 1X2 to RFM69HW-915S2]

## pin header 1X2
designator J?
pin header 1*2 2.54mm
footprint pin header R 1*2 (2.54MM)
footprint pin header 1*2 (2.54MM)
pins: 1, 2

## pin header 1X4
designator P?, comment SWD
Header, 4-Pin; LatestRevisionDate: 17-Jul-2002; LatestRevisionNote: Re-released for DXP Platform.; Publisher: Altium Limited
footprint HDR1X4 (Connector; Header; 4 Position)
signal-integrity model Connector
footprint HDR1X4H (Connector; Header; 4 Position; Right Angle)
pins: 1, 2, 3, 4

## pin header 1X5
designator P?
pin header 1*5 2.54mm; LatestRevisionDate: 17-Jul-2002; LatestRevisionNote: Re-released for DXP Platform.; Publisher: Altium Limited
footprint pin header 1*5 (2.54MM)
pins: 1, 2, 3, 4, 5

## pin header 1X6
designator J?, comment connector 06 pin  (value not drawn)
Pin Connector 06 MODII HDR SRST B/A .100CL 6 POS; MF: TE Connectivity; MP: 5-146283-6; Price: None; SnapEDA_Link: https://www.snapeda.com/parts/5-146283-6/TE%20Connectivity%20AMP%20Connectors/view-part/?ref=snap; Availability: Unavailable; TE_purchase_URL: https://www.te.com/usa-en/product-5-146283-6.html?te_bu=Cor&te_type=disp&te_campaign=seda_glo_cor-seda-global-disp-prtnr-fy19-seda-model-bom-cta_sma-317_1&elqCampaignId=32493; Package: None; Value: *
footprint pin header1*6
pins: 1, 2, 3, 4, 5, 6

## pin header 1X20
designator P?, comment Header 20
Header, 20-Pin; LatestRevisionDate: 17-Jul-2002; LatestRevisionNote: Re-released for DXP Platform.; Publisher: Altium Limited
footprint HDR1X20 (Connector; Header; 20 Position)
signal-integrity model Connector
pins: 1, 2, 3, 4, 5, 6, 7, 8, 9, 10, 11, 12, 13, 14, 15, 16, 17, 18, 19, 20

## pin header 2X2
designator J?
12 Position Header Spacer Connector 0.079 (2.00mm) Gold Surface Mount  TW-06-09-F-D-170-SM; MF: Samtec; Price: None; MP: TW-06-09-F-D-170-SM; Purchase-URL: https://pricing.snapeda.com/search/part/TW-06-09-F-D-170-SM/?ref=eda; Package: None; Check_prices: https://www.snapeda.com/parts/TW-06-09-F-D-170-SM/Samtec/view-part/3525255/?ref=eda; SnapEDA_Link: https://www.snapeda.com/parts/TW-06-09-F-D-170-SM/Samtec/view-part/3525255/?ref=snap; Value: *; Availability: Bad
footprint pin header 2*2 2mm
pins: 01, 02, 03, 04

## pin header 2X3
designator J?
12 Position Header Spacer Connector 0.079 (2.00mm) Gold Surface Mount  TW-06-09-F-D-170-SM; MF: Samtec; Price: None; MP: TW-06-09-F-D-170-SM; Purchase-URL: https://pricing.snapeda.com/search/part/TW-06-09-F-D-170-SM/?ref=eda; Package: None; Check_prices: https://www.snapeda.com/parts/TW-06-09-F-D-170-SM/Samtec/view-part/3525255/?ref=eda; SnapEDA_Link: https://www.snapeda.com/parts/TW-06-09-F-D-170-SM/Samtec/view-part/3525255/?ref=snap; Value: *; Availability: Bad
footprint pin header 2*3 2mm
pins: 01, 02, 03, 04, 05, 06

## pin header 2X4
designator J?
12 Position Header Spacer Connector 0.079 (2.00mm) Gold Surface Mount  TW-06-09-F-D-170-SM; MF: Samtec; Price: None; MP: TW-06-09-F-D-170-SM; Purchase-URL: https://pricing.snapeda.com/search/part/TW-06-09-F-D-170-SM/?ref=eda; Package: None; Check_prices: https://www.snapeda.com/parts/TW-06-09-F-D-170-SM/Samtec/view-part/3525255/?ref=eda; SnapEDA_Link: https://www.snapeda.com/parts/TW-06-09-F-D-170-SM/Samtec/view-part/3525255/?ref=snap; Value: *; Availability: Bad
footprint pin header 2*4 2mm
pins: 01, 02, 03, 04, 05, 06, 07, 08

## pin header 2X6
designator J?
12 Position Header Spacer Connector 0.079 (2.00mm) Gold Surface Mount  TW-06-09-F-D-170-SM; MF: Samtec; Price: None; MP: TW-06-09-F-D-170-SM; Purchase-URL: https://pricing.snapeda.com/search/part/TW-06-09-F-D-170-SM/?ref=eda; Package: None; Check_prices: https://www.snapeda.com/parts/TW-06-09-F-D-170-SM/Samtec/view-part/3525255/?ref=eda; SnapEDA_Link: https://www.snapeda.com/parts/TW-06-09-F-D-170-SM/Samtec/view-part/3525255/?ref=snap; Value: *; Availability: Bad
footprint pin header 2*6 smd
pins: 01, 02, 03, 04, 05, 06, 07, 08, 09, 10, 11, 12

## pin header 3X2
designator P?, comment Header 3X2
Header, 3-Pin, Dual row; LatestRevisionDate: 17-Jul-2002; LatestRevisionNote: Re-released for DXP Platform.; Publisher: Altium Limited
footprint HDR2X3 (Connector; Header; 3x2 Position)
pins: 1, 2, 3, 4, 5, 6

## PIN HEADER-2X3
designator H?
PIN HEADER; GateName_1: A; SymbolName_1: PINH2X3; DeviceSetName: PINHD-2X3; LibraryName: SmartPrj
footprint pin header 2x3 (2X03)
pins: 1, 2, 3, 4, 5, 6

## pin RA header 06
designator J?, comment connector 06 pin  (value not drawn)
Pin Connector 06 RA; MF: TE Connectivity; MP: 5-146283-6; Price: None; SnapEDA_Link: https://www.snapeda.com/parts/5-146283-6/TE%20Connectivity%20AMP%20Connectors/view-part/?ref=snap; Availability: Unavailable; TE_purchase_URL: https://www.te.com/usa-en/product-5-146283-6.html?te_bu=Cor&te_type=disp&te_campaign=seda_glo_cor-seda-global-disp-prtnr-fy19-seda-model-bom-cta_sma-317_1&elqCampaignId=32493; Package: None; Value: *
footprint pin header RA1*6
pins: 1, 2, 3, 4, 5, 6

## PLS-3
designator X?
footprint PLS-3
pins: 1, 2, 3
text: Цепь; Конт.; 5V; VCC; 3.3V

## PLS-6
designator X?
footprint PLS-6
pins: 1, 2, 3, 4, 5, 6
text: Цепь; Конт.; VCC; TXD; RXD; GND; DTR; RTS

## PN8308HSEC-R1
designator U?
High-Performance / Switching Power Supply / Secondary Synchronous Rectifier IC; MF: Toshiba Semiconductor; MP: TPHR8504PL,L1Q; Package: SOP-8 Toshiba; Price: None; Value: *; SnapEDA_Link: https://www.snapeda.com/parts/TPHR8504PL,L1Q/Toshiba%20Semiconductor%20and%20Storage/view-part/604439/?ref=snap; Availability: Unavailable
footprint PN8308HSEC-R1 (SOP8)
pins: 1 GND, 2 GND (power), 3 VDD (power), 4 VCC, 5 DRAIN, 6 DRAIN, 7 DRAIN, 8 DRAIN

## Potentiometer
designator VR?, comment POT
Potentiometer
footprint Potentiometer (THT)
footprint potentiometer SMD (SMD)
pins: 1 R, 2 M, 3 L

## Power jack
designator J?
2.0 x 6.5 mm, 2.5 A, Horizontal, Through Hole, Tapered Pins, Dc Power Jack Connector; MF: CUI Devices; MP: PJ-102A; CUI_purchase_URL: https://www.cuidevices.com/product/interconnect/connectors/dc-power-connectors/jacks/pj-102a?utm_source=snapeda.com&utm_medium=referral&utm_campaign=snapedaBOM; Price: None; SnapEDA_Link: https://www.snapeda.com/parts/PJ-102A/CUI%20Devices/view-part/55545/?ref=snap; Value: *; Availability: Unavailable; Package: None
footprint Power jack
pins: 1, 2, 3

## Power jack_v
designator J?, comment PWR2.5
Power jack vertical; Published: 17-Dec-2003; DatasheetDocument: 09-May-2002; Publisher: Altium Limited; ComponentLink1Description: Manufacturer Link; ComponentLink1URL: http://domino.kycon.com/internet/Products.html
footprint Power JACK VERTICAL
pins: 1 (power), 2 (power), 3 (power)

## PT2313L-28
designator *
footprint SOP28
pins: 1 REF, 2 VDD, 3 AGND, 4 TREB-L, 5 TREB-R, 6 RIN, 7 ROUT, 8 LOUD-R, 9 RIN3, 10 RIN2, 11 RIN1, 12 LOUD-L, 13 LIN3, 14 LIN2, 15 LIN1, 16 LIN, 17 LOUT, 18 BIN-L, 19 BOUT-L, 20 BIN-R, 21 BOUT-R, 22 RROUT, 23 LROUT, 24 RFOUT, 25 LFOUT, 26 DGND, 27 DATA, 28 CLK

## PW3428
designator Q?
N-Channel 40V DFN 3*3; MF: Toshiba Semiconductor; MP: TPHR8504PL,L1Q; Package: SOP-8 Toshiba; Price: None; Value: *; SnapEDA_Link: https://www.snapeda.com/parts/TPHR8504PL,L1Q/Toshiba%20Semiconductor%20and%20Storage/view-part/604439/?ref=snap; Availability: Unavailable
footprint PW3428 (PDFN3X3-8)
pins: 1 S, 4 G, 5 D

## QD3501
designator U?, comment 3.5-TFT
3.5inch TFT LCD
pins: 1 LEDA, 2 LED6K, 3 LED5K, 4 LED4K, 5 LED3K, 6 LED2K, 7 LED1K, 8 GND, 9 LED7K(NC), 10 VCI, 11 IOVCC, 12 ~{CS}, 13 ~{WR}, 14 RS, 15 ~{RD}, 16 ~{RESET}, 17 NC, 18 NC, 19 D15, 20 D14, 21 D13, 22 D12, 23 D11, 24 D10, 25 D9, 26 D8, 27 D7, 28 D6, 29 D5, 30 D4, 31 D3, 32 D2, 33 D1, 34 D0, 35 IM0/NC, 36 IM1/NC, 37 FMARK, 38 LED8K(NC), 39 GND, 40 XL(NC), 41 YD(NC), 42 XR(NC), 43 YU(NC), 44 GND

## QI Wireless coil
designator L?
QI Wireless coil 10uH; MP: DR127-330-R; MF: Eaton; Price: None; Package: Nonstandard Eaton; Availability: Unavailable; SnapEDA_Link: https://www.snapeda.com/parts/DR127-330-R/Eaton/view-part/?ref=snap; Value: *
footprint QI Wireless coil
footprint QI Wireless coil - A11 -Pins
pins: 1, 2

## RC4558DR
designator IC?
Integrated Circuit SOIC 8; Manufacturer_Name: Texas Instruments; Manufacturer_Part_Number: RC4558DR; Datasheet Link: http://www.ti.com/lit/gpn/rc4558; Height: 1.75mm; Arrow Part Number: RC4558DR; Arrow Price/Stock: https://www.arrow.com/en/products/rc4558dr/texas-instruments; Mouser Part Number: 595-RC4558DR; Mouser Price/Stock: https://www.mouser.co.uk/ProductDetail/Texas-Instruments/RC4558DR?qs=DXdcjUGny5OhrzskaZRdew%3D%3D
footprint RC4558
part A pins: 1 1OUT, 2 1IN-, 3 1IN+, 4 VCC-
part B pins: 5 2IN+, 6 2IN-, 7 2OUT, 8 VCC+

## RDA5807
designator IC?
Integrated Circuit; Manufacturer_Name: RDA Microelectronics; Manufacturer_Part_Number: RDA5807; Datasheet Link: http://cxem.net/tuner/files/tuner84_RDA5807M_datasheet_v1.pdf; Height: 1.1mm
footprint SOP50P490X110-10N
pins: 1 GND_1, 2 FMIN, 3 GND_2, 4 SCLK, 5 SDIO, 6 RCLK, 7 VDD, 8 GND_3, 9 ROUT, 10 LOUT

## REG1117-3.3
designator U?, comment AMS1117-3.3
800mA and 1A Low Dropout Positive Regulator 2.85V, 3.3V, 5V, and Adjustable; Published: 8-Jun-2000; LatestRevisionDate: 17-Jul-2002; LatestRevisionNote: Re-released for DXP Platform.; DatasheetVersion: Sep-1997; PackageVersion: revC; PackageReference: ZZ311; Publisher: Altium Limited; PackageDescription: SOT-223/SC-73; 4 Leads; Body 6.7 x 7.3 mm, inc. leads (LxW max); ComponentLink1Description: Manufacturer Link; ComponentLink1URL: http://www.ti.com/; ComponentLink2Description: Datasheet; ComponentLink2URL: http://www-s.ti.com/sc/ds/REG1117.pdf
footprint ZZ311 (SOT-223/SC-73; 4 Leads; Body 6.7 x 7.3 mm, inc. leads (LxW max))
pins: 1 GND (power), 2 OUT (power), 3 IN (power), 4 OUT (power)

## Relay-SPST
designator R?
Single-Pole Single-Throw Relay; Published: 24-Mar-1999; LatestRevisionDate: 17-Jul-2002; LatestRevisionNote: Re-released for DXP Platform.; PackageReference: MODULE4; Publisher: Altium Limited
footprint RELAY-SPST
pins: 1, 2, 3, 4

## RELAY-SRD
designator K?, comment SRD-05VDC-SL-C
5V Trigger Relay Module For Arduino And Raspberry Pi 5V Trigger Relay Module For Arduino And Raspberry Pi; MF: Songle Relay; SnapEDA_Link: https://www.snapeda.com/parts/SRD-05VDC-SL-C/Songle%20Relay/view-part/1029484/?ref=snap; MP: SRD-05VDC-SL-C; Availability: Unavailable; Price: None; Package: None; Value: *
footprint RELAY_SRD-05VDC-SL-C_SRD-05VDC-SL-C(Primary)
pins: A1, A2, COM, NC, NO

## RELAY-SRD_Baby_Milon
designator K?, comment SRD-05VDC-SL-C
5V Baby milon Trigger Relay Module For Arduino And Raspberry Pi 5V Trigger Relay Module For Arduino And Raspberry Pi; MF: Songle Relay; SnapEDA_Link: https://www.snapeda.com/parts/SRD-05VDC-SL-C/Songle%20Relay/view-part/1029484/?ref=snap; MP: SRD-05VDC-SL-C; Availability: Unavailable; Price: None; Package: None; Value: *
footprint Relay Baby milon (relay baby milon 12v)
pins: A1, A2, COM, NC, NO

## Res 0402
designator R?, comment R, 0402
Resistor 0402; Published: 8-Jun-2000; LatestRevisionDate: 29-May-2009; LatestRevisionNote: IPC-7351 Footprint Added.; PackageReference: J1-0603; Publisher: Altium Limited; PackageDescription: Chip Resistor
footprint RES-0402
pins: 1, 2

## Res 0603
designator R?, comment R, 0603
Resistor 0603; Published: 8-Jun-2000; LatestRevisionDate: 29-May-2009; LatestRevisionNote: IPC-7351 Footprint Added.; PackageReference: J1-0603; Publisher: Altium Limited; PackageDescription: Chip Resistor
footprint RES-0603
pins: 1, 2

## Res 0805
designator R?, comment k,0805
resistor 0805
footprint RES-0805
pins: 1, 2

## Res 1206
designator R?, comment R, 1206
Resistor 1206; Published: 8-Jun-2000; LatestRevisionDate: 29-May-2009; LatestRevisionNote: IPC-7351 Footprint Added.; PackageReference: J1-0603; Publisher: Altium Limited; PackageDescription: Chip Resistor
footprint RES-1206
pins: 1, 2

## Res 1210
designator R?, comment R, 1210
Resistor 1210; Published: 8-Jun-2000; LatestRevisionDate: 29-May-2009; LatestRevisionNote: IPC-7351 Footprint Added.; PackageReference: J1-0603; Publisher: Altium Limited; PackageDescription: Chip Resistor
footprint RES-1210
pins: 1, 2

## Res 2512
designator R?, comment k,2512
resistor 2512
footprint RES2512
pins: 1, 2

## Res Dip NTC
designator R?, comment NTC
Res Dip NTC; Published: 8-Jun-2000; LatestRevisionDate: 29-May-2009; LatestRevisionNote: IPC-7351 Footprint Added.; PackageReference: J1-0603; Publisher: Altium Limited; PackageDescription: Chip Resistor
footprint RES DIP NTC
footprint RES DIP NTC Vertical
pins: 1, 2

## Res Trimmer
designator R?, comment RES Trimmer
Res Cermet Trimmer Multi turn; MF: Bourns; MP: 3224W-1-102E; Price: None; SnapEDA_Link: https://www.snapeda.com/parts/3224W-1-102E/Bourns/view-part/?ref=snap; Availability: Unavailable; Package: Bourns; Value: *
footprint Trimmer (multi turn res)
pins: 1, 2, 3

## Resistor
designator R?, comment 10K,0603
Resistor; Published: 8-Jun-2000; LatestRevisionDate: 17-Jul-2002; LatestRevisionNote: Re-released for DXP Platform.; Publisher: Altium Limited
simulation model RESISTOR (Resistor)
signal-integrity model Res
footprint R0603
pins: 1, 2

## resonator_16M
designator Y?, comment 16Mhz
Crystal 16.0000mhz 18pf Smd; MP: 7B-16.000MAAJ-T; MF: TXC; Package: SMD-4 TXC; Price: None; Availability: Unavailable; SnapEDA_Link: https://www.snapeda.com/parts/7B-16.000MAAJ-T/TXC%20CORPORATION/view-part/?ref=snap; Value: *
footprint *OSCCC500X320X110-4N
pins: 1, 2 GND, 3, 4 GND

## RFM69HW-915S2
designator U?
RFM69HW LoRA Transceiver Module 915MHz; MP: RFM95W-915S2; MF: RF Solutions; SnapEDA_Link: https://www.snapeda.com/parts/RFM95W-915S2/RF%20Solutions/view-part/?ref=snap; Price: None; Package: SMD-16 RF Solutions; Availability: Unavailable; Value: *
footprint *XCVR_RFM69HW-868S2
pins: 1 GND (power), 2 MISO (in), 3 MOSI (out), 4 SCK (in), 5 NSS (in), 6 RESET (io), 7 DIO5 (io), 8 GND (power), 9 ANT (io), 10 GND (power), 11 DIO3 (io), 12 DIO4 (io), 13 3.3V (power), 14 DIO0 (io), 15 DIO1 (io), 16 DIO2 (io)

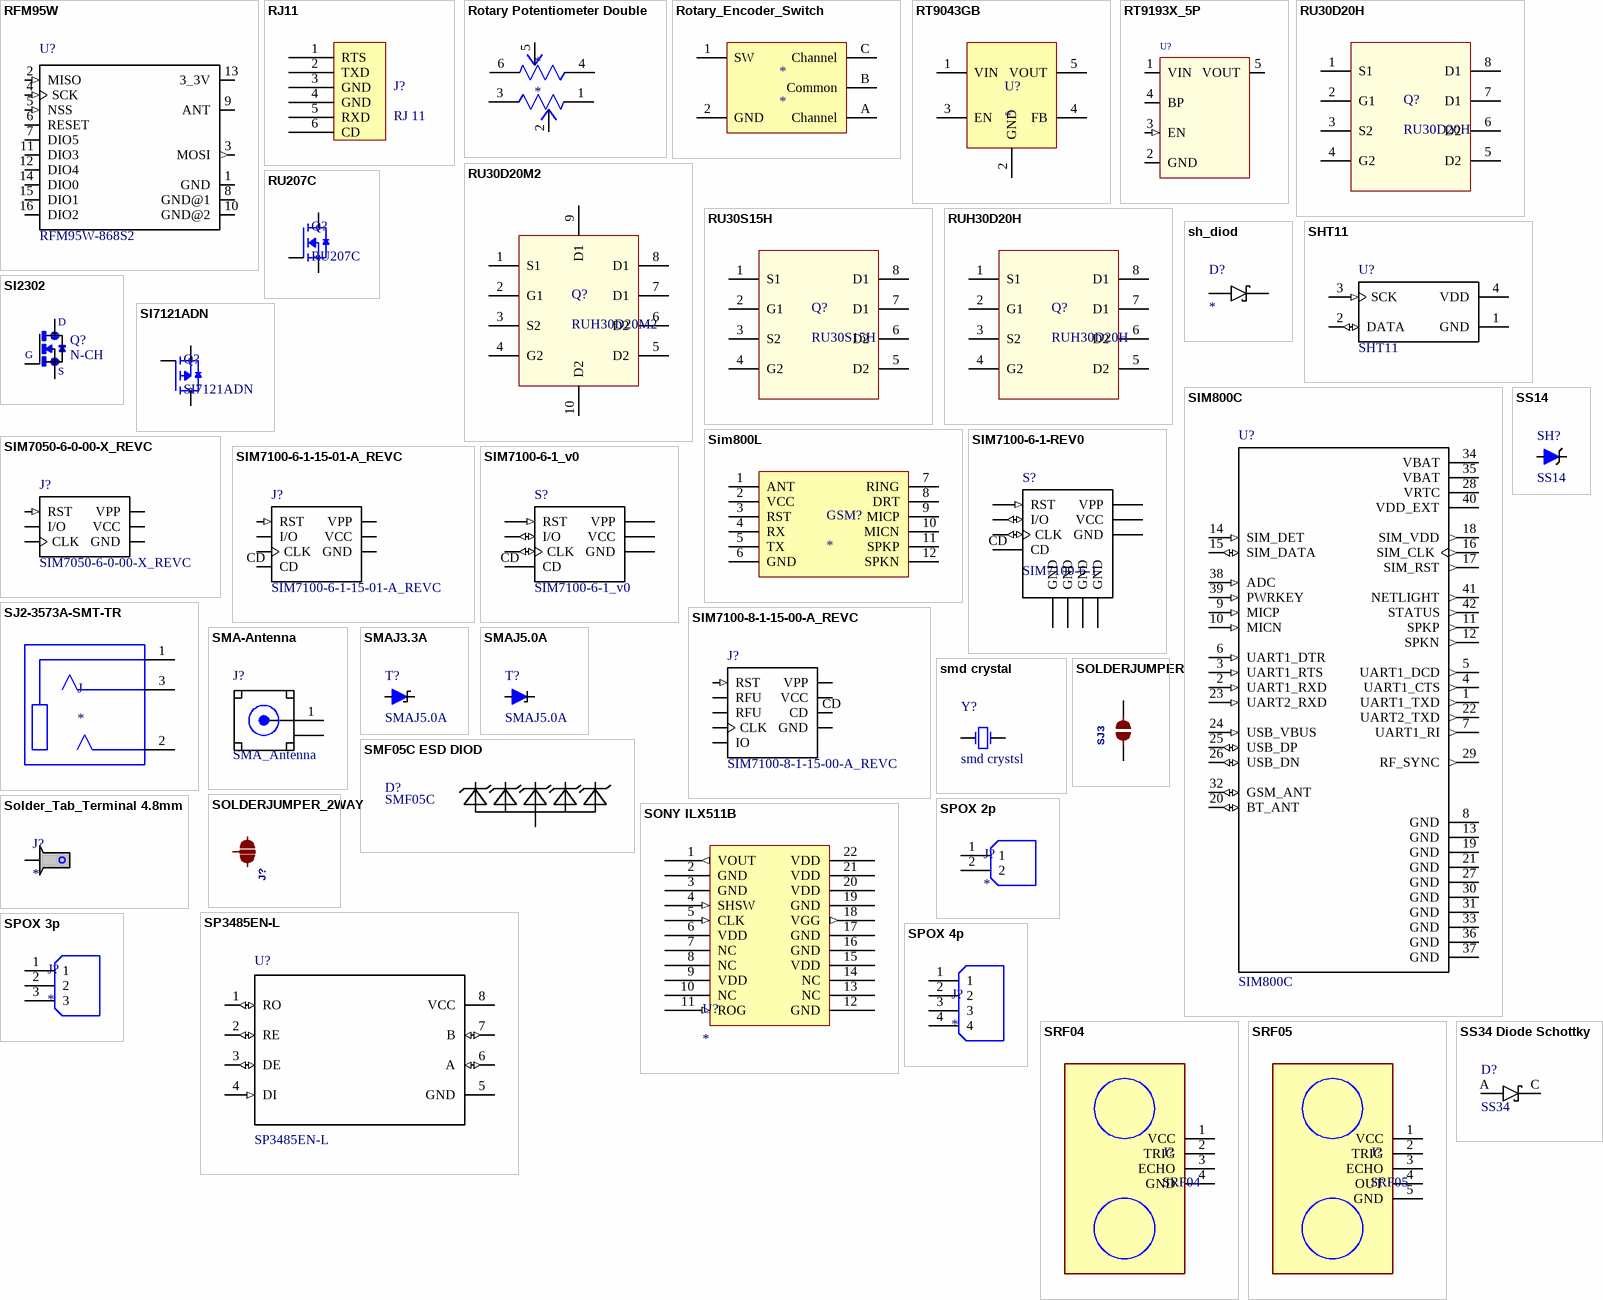
[diagram p14: symbols RFM95W to SS34 Diode Schottky]

## RFM95W
designator U?, comment RFM95W-868S2
MF: RF; MP: RFM95W-868S2; SnapEDA_Link: https://www.snapeda.com/parts/RFM95W-868S2/RF%20Solutions/view-part/?ref=snap; Price: None; Package: SMD-16 Hope Microelectronics; Availability: Unavailable; Value: *
footprint RFM95W
pins: 1 GND (power), 2 MISO (in), 3 MOSI (out), 4 SCK (in), 5 NSS (in), 6 RESET (io), 7 DIO5 (io), 8 GND@1 (power), 9 ANT, 10 GND@2 (power), 11 DIO3 (io), 12 DIO4 (io), 13 3_3V (power), 14 DIO0 (io), 15 DIO1 (io), 16 DIO2 (io)

## RJ11
designator J?, comment RJ 11
footprint RJ-11
pins: 1 RTS, 2 TXD, 3 GND, 4 GND, 5 RXD, 6 CD

## Rotary Potentiometer Double
designator *
footprint Rotary Potentiometer Double
pins: 1 CCW, 2 S, 3 CW, 4 CW, 5 S, 6 CCW

## Rotary_Encoder_Switch
designator *
footprint Rotary_Encoder_Switch
pins: 1 SW, 2 GND, A Channel, B Common, C Channel

## RT9043GB
designator U?
High PSRR, Low Dropout, 400mA Adjustable LDO Regulator
footprint SOT-23-5
pins: 1 VIN, 2 GND, 3 EN, 4 FB, 5 VOUT

## RT9193X_5P
designator U?, comment RT9193  (value not drawn)
ICA_MFR_NAME: RICHTEK; ICA_PARTNUM: $$2191094$$RT9193-15CU5; Part Number: TMP-13
footprint SOT-23-5
pins: 1 VIN (power), 2 GND (power), 3 EN (in), 4 BP, 5 VOUT (power)

## RU30D20H
designator Q?
Dual N Mosfet; MF: Toshiba Semiconductor; MP: TPHR8504PL,L1Q; Package: SOP-8 Toshiba; Price: None; Value: *; SnapEDA_Link: https://www.snapeda.com/parts/TPHR8504PL,L1Q/Toshiba%20Semiconductor%20and%20Storage/view-part/604439/?ref=snap; Availability: Unavailable
footprint RU30D20H (Dual N Mosfet SOP-8)
pins: 1 S1, 2 G1 (power), 3 S2 (power), 4 G2, 5 D2, 6 D2, 7 D1, 8 D1

## RU30D20M2
designator Q?, comment RUH30D20M2
Dual P Mosfet; MF: Toshiba Semiconductor; MP: TPHR8504PL,L1Q; Package: SOP-8 Toshiba; Price: None; Value: *; SnapEDA_Link: https://www.snapeda.com/parts/TPHR8504PL,L1Q/Toshiba%20Semiconductor%20and%20Storage/view-part/604439/?ref=snap; Availability: Unavailable
footprint RU30d20m2 (PDFN3333)
footprint RU30d20m2-MOSFET
pins: 1 S1, 2 G1 (power), 3 S2 (power), 4 G2, 5 D2, 6 D2, 7 D1, 8 D1, 9 D1, 10 D2

## RU30S15H
designator Q?
Dual P Mosfet; MF: Toshiba Semiconductor; MP: TPHR8504PL,L1Q; Package: SOP-8 Toshiba; Price: None; Value: *; SnapEDA_Link: https://www.snapeda.com/parts/TPHR8504PL,L1Q/Toshiba%20Semiconductor%20and%20Storage/view-part/604439/?ref=snap; Availability: Unavailable
footprint RU30S15H (DUAL P Mosfet SOP-8)
pins: 1 S1, 2 G1 (power), 3 S2 (power), 4 G2, 5 D2, 6 D2, 7 D1, 8 D1

## RU207C
designator Q?
N-Channel Advanced Power MOSFET; MF: Toshiba Semiconductor; MP: TPHR8504PL,L1Q; Package: SOP-8 Toshiba; Price: None; Value: *; SnapEDA_Link: https://www.snapeda.com/parts/TPHR8504PL,L1Q/Toshiba%20Semiconductor%20and%20Storage/view-part/604439/?ref=snap; Availability: Unavailable
footprint RU207C (N-Channel Advanced Power MOSFET  SOT23-3)
pins: 1 G, 2 S, 3 D

## RUH30D20H
designator Q?
Dual P Mosfet; MF: Toshiba Semiconductor; MP: TPHR8504PL,L1Q; Package: SOP-8 Toshiba; Price: None; Value: *; SnapEDA_Link: https://www.snapeda.com/parts/TPHR8504PL,L1Q/Toshiba%20Semiconductor%20and%20Storage/view-part/604439/?ref=snap; Availability: Unavailable
footprint RUH30D20H (DUAL P Mosfet SOP-8)
pins: 1 S1, 2 G1 (power), 3 S2 (power), 4 G2, 5 D2, 6 D2, 7 D1, 8 D1

## sh_diod
designator D?
MF: ON Semiconductor; MP: SS34; Package: None; Price: None; Availability: Unavailable; SnapEDA_Link: https://www.snapeda.com/parts/SS34/ON%20Semiconductor/view-part/4479478/?ref=snap; Value: *
footprint SH_diod
pins: A, C

## SHT11
designator U?
SHT11 Temperature and Humidity Sensor 8-Pin LCC, -40 - +123.8 degC; MF: Sensirion AG; SnapEDA_Link: https://www.snapeda.com/parts/SHT11/Sensirion%20AG/view-part/?ref=snap; Price: None; Availability: Unavailable; MP: SHT11; Package: LCC-8 RS Components; Value: *
footprint SHTXX
pins: 1 GND (power), 2 DATA (io), 3 SCK (in), 4 VDD (power)

## SI2302
designator Q?, comment N-CH
N-Channel 20V 2.6A _Ta_ 710mW _Ta_ Surface Mount SOT-23-3 _TO-236_; MP: SI2302; MF: Vishay Siliconix; Price: None; Package: SOT-23-3 Vishay Siliconix; Availability: Unavailable; SnapEDA_Link: https://www.snapeda.com/parts/SI2302/Vishay%20Siliconix/view-part/2777527/?ref=snap; Value: *
footprint SI2302
pins: 1 G, 2 S, 3 D

## SI7121ADN
designator Q?
P-Channel 40V DFN 3*3; MF: Toshiba Semiconductor; MP: TPHR8504PL,L1Q; Package: SOP-8 Toshiba; Price: None; Value: *; SnapEDA_Link: https://www.snapeda.com/parts/TPHR8504PL,L1Q/Toshiba%20Semiconductor%20and%20Storage/view-part/604439/?ref=snap; Availability: Unavailable
footprint SI7121ADN (PDFN3X3-8)
pins: 1 S, 4 G, 5 D